# EAGLE library part 691356310008B (library Wurth_Connectors_WR-TBL Pluggable Connector)
WR-TBL Serie 356B - 3.81 mm Double Level Horizontal Male PCB Header KIND PROPERTIES Pitch 3.81 mm MATERIAL PROPERTIES Insulator Material PA66 Insulator Flammability Rating UL94 V-0 Contact Material Brass Contact Plating Tin GENERAL INFORMATION Operating Temperature -40 up to +105 °C Compliance RoHS ELECTRICAL PROPERTIES IR UL 10 A Working Voltage [UL] 300 V (AC) Withstanding Voltage [cULus] 2000 V (AC) Contact Resistance [cULus] 20 mΩ CERTIFICATION cULus Approval E315414 <https://www.we-online.com/catalog/media/o60704v209%20Family_WR-TBL_Serie_356B_6913563100xxB.jpg> Details see: https://www.we-online.com/catalog/en/TBL_3_81_356B_DOUBLE_LEVEL_HORIZONTAL_MALE_PCB_HEADER_6913563100XXB/ Updated by Ella Wu 2019-12-23 2022(C) Wurth Elektronik
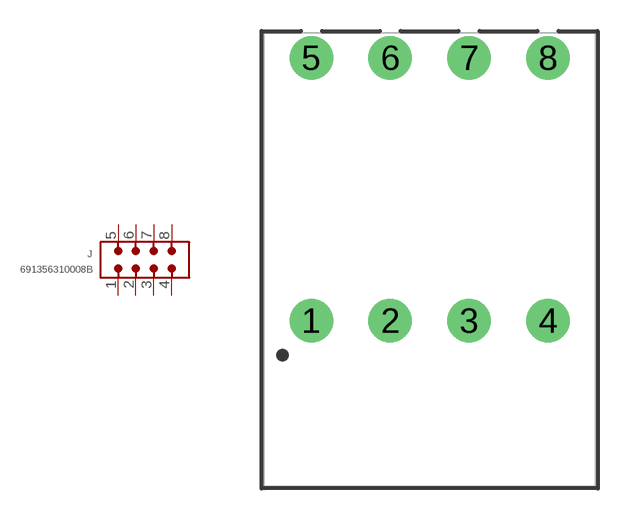
[diagram p23: symbol with the pads of 691356310008B; footprint 691356310008B]

Designator prefix J

## 691356310008B (DATASHEET-URL: https://www.we-online.com/redexpert/spec/691356310008B?ae; IR-UL: 10A; MOUNT: THT; PART-NUMBER: 691356310008B; PINS: 8; PITCH: 3.81mm; TYPE: Double Level Horizontal; VALUE: 691356310008B; WORKING-VOLTAGE-UL: 300V (AC))  [691356310008B]
1  1  pas
2  2  pas
3  3  pas
4  4  pas
5  5  pas
6  6  pas
7  7  pas
8  8  pas

## Footprint 691356310008B (pad centres in mm)
WR-TBL Serie 356B - 3.81 mm Double Level Horizontal Male PCB Header Max Height = 22.4mm , Pitch 3.81mm , 8pins
drill 1.4: 1 -5.715,-6.35; 2 -1.905,-6.35; 3 1.905,-6.35; 4 5.715,-6.35; 5 -5.715,6.35; 6 -1.905,6.35; 7 1.905,6.35; 8 5.715,6.35